# Altium schematic symbol library TR_PNP.Schlib: 4 symbols
Pins are listed as number, name and electrical type; pins without a type are passive.

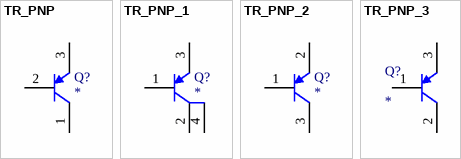
[diagram p0: symbols TR_PNP to TR_PNP_3]

## TR_PNP
designator Q?
Amplifier Transistor PNP Silicon
pins: 1 C, 2 B, 3 E

## TR_PNP_1
designator Q?
Amplifier Transistor NPN Silicon
pins: 1 C, 2 B, 3 E, 4

## TR_PNP_2
designator Q?
Amplifier Transistor PNP Silicon
pins: 1 C, 2 B, 3 E

## TR_PNP_3
designator Q?
Amplifier Transistor PNP Silicon
pins: 1 B, 2 C, 3 E